# Altium schematic symbol library Schlib1.SchLib: 3 symbols
Pins are listed as number, name and electrical type; pins without a type are passive.

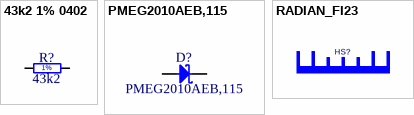
[diagram p0: symbols 43k2 1% 0402 to RADIAN_FI23]

## 43k2 1% 0402
designator R?, comment 43k2
Resistor - 1%; Power: 0.063W; Value: 43k2; Tolerance: ±1%; Case: 0402
footprint RESC1005X35N (Chip Resistor, EIA 0402, Metric 1005, Body 1.0x0.5mm, IPC Medium Density)
pins: 1, 2
text: 1%

## PMEG2010AEB,115
designator D?
Schottky Diode; Manufacturer: Nexperia; Manufacturer Part Number: PMEG2010AEB,115; Device: PMEG2010AEB,115
footprint SOD523
pins: 1 C, 2 A

## RADIAN_FI23
designator HS?  (value not drawn)
Heat Sink Without Pad; Manufacturer: Radian Thermal Products, Inc.; Manufacturer Part Number: FI23+BU+T725; Part Description: 23 x 23 x 16 mm, clip on heatsink with fan for IC design BGA and others; ComponentHeight: 16 mm; HelpURL: https://www.radianheatsinks.com/product/fi23/
footprint RADIAN_FI23 (Heatsink with fan)